# Altium schematic symbol library 10K Resistor.SchLib: 1 symbol
Pins are listed as number, name and electrical type; pins without a type are passive.

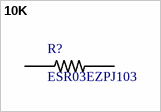
[diagram p0: symbol 10K]

## 10K
designator R?, comment ESR03EZPJ103
/ Res Thick Film 0603 10K Ohm 5% 0.25W_1/4W_ Â±200ppm/C Molded SMD Automotive T/R /; MF: Rohm; Package: 0603 Rohm; MP: ESR03EZPJ103; SnapEDA_Link: https://www.snapeda.com/parts/ESR03EZPJ103/Rohm/view-part/?ref=snap; Price: None; Availability: Unavailable; Value: *
footprint RESC1608X55N (Footprint not found)
pins: 1, 2